# Altium schematic symbol library 1874VE7T.Schlib: 1 symbol
Pins are listed as number, name and electrical type; pins without a type are passive.

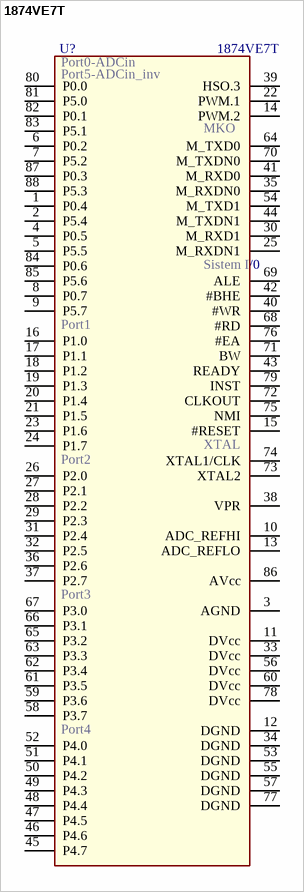
[diagram p0: symbol 1874VE7T]

## 1874VE7T
designator U?
1874BE7T; Назначение: 16-ти разрядный микроконтроллер; Наименование: 1874BE7T
footprint 4235.88-1
pins: 1 P0.4 (oc), 2 P5.4 (oc), 3 AGND (oc), 4 P0.5 (oc), 5 P5.5 (oc), 6 P0.2 (oc), 7 P5.2 (oc), 8 P0.7 (oc), 9 P5.7 (oc), 10 ADC_REFHI (oc), 11 DVcc (oc), 12 DGND (oc), 13 ADC_REFLO (oc), 14 PWM.2 (oc), 15 #RESET (oc), 16 P1.0 (oc), 17 P1.1 (oc), 18 P1.2 (oc), 19 P1.3 (oc), 20 P1.4 (oc), 21 P1.5 (oc), 22 PWM.1 (oc), 23 P1.6 (oc), 24 P1.7 (oc), 25 M_RXDN1 (oc), 26 P2.0 (oc), 27 P2.1 (oc), 28 P2.2 (oc), 29 P2.3 (oc), 30 M_RXD1 (oc), 31 P2.4 (oc), 32 P2.5 (oc), 33 DVcc (oc), 34 DGND (oc), 35 M_RXDN0 (oc), 36 P2.6 (oc), 37 P2.7 (oc), 38 VPR (oc), 39 HSO.3 (oc), 40 #WR (oc), 41 M_RXD0 (oc), 42 #BHE (oc), 43 READY (oc), 44 M_TXDN1 (oc), 45 P4.7 (oc), 46 P4.6 (oc), 47 P4.5 (oc), 48 P4.4 (oc), 49 P4.3 (oc), 50 P4.2 (oc), 51 P4.1 (oc), 52 P4.0 (oc), 53 DGND (oc), 54 M_TXD1 (oc), 55 DGND (oc), 56 DVcc (oc), 57 DGND (oc), 58 P3.7 (oc), 59 P3.6 (oc), 60 DVcc (oc), 61 P3.5 (oc), 62 P3.4 (oc), 63 P3.3 (oc), 64 M_TXD0 (oc), 65 P3.2 (oc), 66 P3.1 (oc), 67 P3.0 (oc), 68 #RD (oc), 69 ALE (oc), 70 M_TXDN0 (oc), 71 BW (oc), 72 CLKOUT (oc), 73 XTAL2 (oc), 74 XTAL1/CLK (oc), 75 NMI (oc), 76 #EA (oc), 77 DGND (oc), 78 DVcc (oc), 79 INST (oc), 80 P0.0 (oc), 81 P5.0 (oc), 82 P0.1 (oc), 83 P5.1 (oc), 84 P0.6 (oc), 85 P5.6 (oc), 86 AVcc (oc), 87 P0.3 (oc), 88 P5.3 (oc)
text: Port0-ADCin; Port5-ADCin_inv; MKO; Sistem I/0; Port1; XTAL; Port2; Port3; Port4